# Altium footprint library PCB_Potentiostat_revA.PcbLib: 38 footprints (part 1 of 3)
Each footprint in its own frame and in the unit in brackets; x right, y up, seen from the top. Pads: shape width x height; smd on the part's side, far side on the other; paste and mask are expansions set on the pad; w line width, h text height; cw(c..) or ccw(c..) is an arc to the next point about the centre after c.
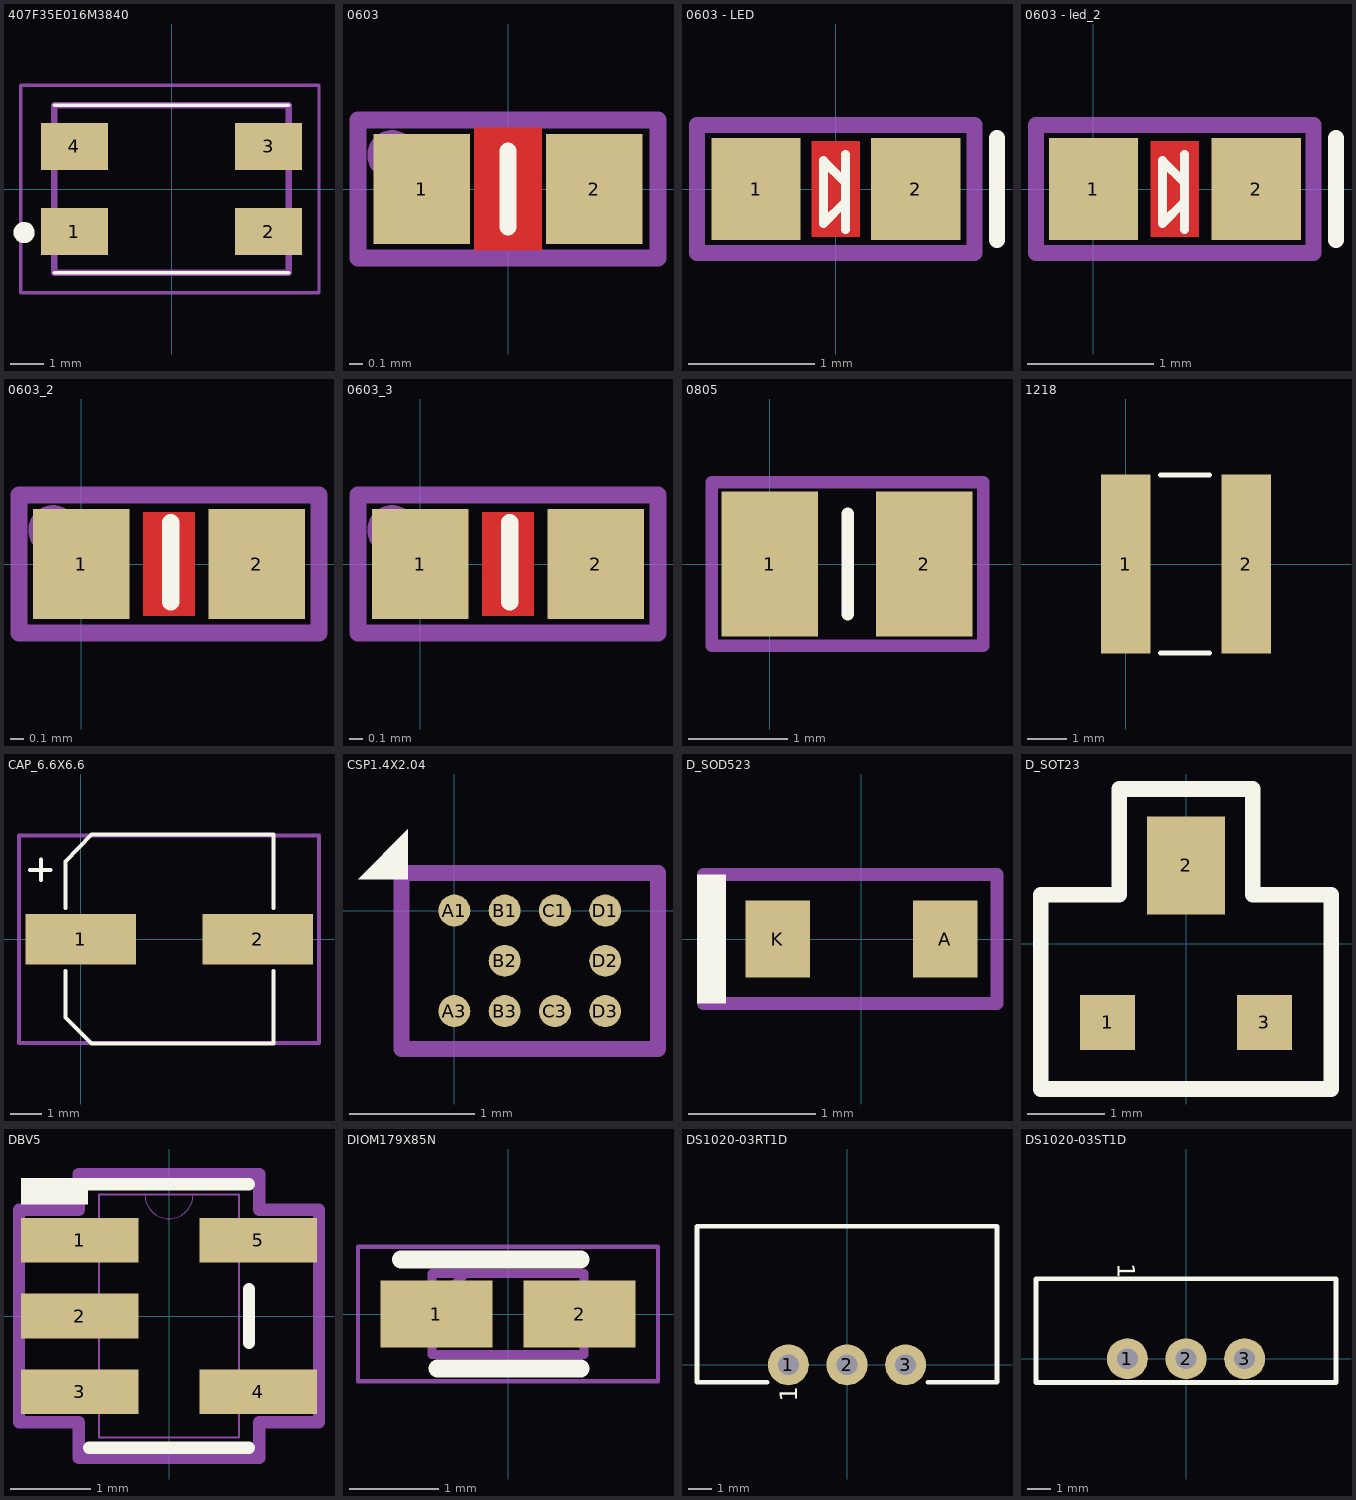
[diagram p0: the footprints below, top view; thin cyan lines are the x and y axes]

## 407F35E016M3840 [mm]
height 1.5
pads (4):
  rect 2x1.4 smd: 1(-2.9,-1.27) 2(2.9,-1.27) 3(2.9,1.27) 4(-2.9,1.27)
Top Overlay:
  circle w0.33: c-4.4,-1.3 r0.152
  lines w0.1: -3.5,-2.5 3.5,-2.5 ; -3.5,2.5 3.5,2.5
Mechanical 13:
  lines w0.2: -3.5,-2.5 -3.5,2.5 3.5,2.5 3.5,-2.5 -3.5,-2.5
Mechanical 15:
  lines w0.1: -4.5,-3.1 -4.5,3.1 4.4,3.1 4.4,-3.1 -4.5,-3.1
3D body "407F35E016M3840.stp": height 1.4, standoff 0, extent -3.76,-2.5 3.76,2.5

## 0603 [mil]
height 39.37
pads (2):
  rect 28x32 smd: 1(-25,0) 2(25,0)
Top Layer:
  pour cut-out: -9.84,-17.72 9.84,-17.72 9.84,17.72 -9.84,17.72
Top Overlay:
  lines w5: 0,-11 0,11
Mechanical 13:
  lines w5: -43.5,-20 43.5,-20 43.5,20 -43.5,20 -43.5,-20
Mechanical 15:
  circle w10: c-33.61,9.84 r2.2
3D body "0603E.STEP": height 18.9, standoff -1.18, extent -31.74,-17.03 31.26,16.83

## 0603 - LED [mil]
height 59.06
pads (2):
  rect 28x32 smd: 1(-25,0) 2(25,0)
Top Layer:
  pour cut-out: -7.5,-15 7.5,-15 7.5,15 -7.5,15
Top Overlay:
  lines w2.76: 3.04,-12.8 3.04,10.83 ; -3.89,-10.87 3.04,-3.94 3.04,1.97 -3.89,8.9 -3.89,-10.87
  lines w5: 50.5,-16 50.5,16
Mechanical 13:
  lines w5: -43.5,-20 -43.5,20 43.5,20 43.5,-20 -43.5,-20
Mechanical 15:
  text "K" at 29.62,2.95 h12.01
3D body "SW3dPS-LED SMD0603.STEP": height 26.76, standoff 0.19, extent -32.48,-15 32.48,13.54

## 0603 - led_2 [mil]
pads (2):
  rect 28x32 smd: 1(0,0) 2(51,0)
Top Layer:
  pour cut-out: 18,-15 33,-15 33,15 18,15
Top Overlay:
  lines w2.76: 28.54,-12.8 28.54,10.83 ; 21.61,-10.87 28.54,-3.94 28.54,1.97 21.61,8.9 21.61,-10.87
  lines w5: 76,-16 76,16
Mechanical 13:
  lines w5: -18,-20 -18,20 69,20 69,-20 -18,-20
Mechanical 15:
  text "K" at 55.12,2.95 h12.01
3D body "SW3dPS-LED SMD0603.STEP": height 26.76, standoff 0.19, extent -6.98,-15 57.98,13.54

## 0603_2 [mil]
pads (2):
  rect 28x32 smd: 1(0,0) 2(51,0)
Top Layer:
  pour cut-out: 18,-15 33,-15 33,15 18,15
Top Overlay:
  lines w5: 26,-11 26,12
Mechanical 13:
  lines w5: -18,-20 69,-20 69,20 -18,20 -18,-20
Mechanical 15:
  circle w10: c-8.11,9.84 r2.2
  text ".Designator" at 9.92,-2.95 h4
3D body "User Library-CapCeramic_Kemet_0603_1608.STEP": height 31.5, standoff 0, extent -5.9,-15.74 57.09,15.75

## 0603_3 [mil]
pads (2):
  rect 28x32 smd: 1(0,0) 2(51,0)
Top Layer:
  pour cut-out: 18,-15 33,-15 33,15 18,15
Top Overlay:
  lines w5: 26,-11 26,12
Mechanical 13:
  lines w5: -18,-20 69,-20 69,20 -18,20 -18,-20
Mechanical 15:
  circle w10: c-8.11,9.84 r2.2
3D body "0603E.STEP": height 18.9, standoff -1.18, extent -6.24,-17.03 56.76,16.83

## 0805 [mil]
height 39.37
pads (2):
  rect 38.5x57.87 smd: 1(0,0) 2(61.5,0)
Top Overlay:
  lines w5: 31,-20 31,20
Mechanical 13:
  lines w5: -23,-32.48 85,-32.48 85,32.48 -23,32.48 -23,-32.48
  text ".Designator" at -12,-11 h12
3D body "0805 SMD Resistor.STEP": height 30.79, standoff 0, extent -7.87,-24.6 70.87,24.61

## 1218 [mm]
height 4.65
pads (2):
  rect 1.27x4.6 smd: 1(0,0) 2(3.1,0)
Top Overlay:
  lines w0.127: 0.889,-2.286 2.159,-2.286 ; 0.889,2.286 2.159,2.286
3D body "User Library-RESC3225X06N.STEP": height 0.55, standoff 0, extent -0.175,-1.25 3.025,1.25

## CAP_6.6X6.6 [mm]
height 1.5
pads (2):
  rect 3.5x1.6 smd: 1(0,0) 2(5.6,0)
Top Overlay:
  lines w0.127: -1.61,2.2 -0.96,2.2 ; -1.27,1.89 -1.27,2.54 ; -0.49,-1 -0.49,-2.47 0.34,-3.3 6.1,-3.3 6.1,-1 ; -0.49,1 -0.49,2.47 0.34,3.33 6.1,3.33 ; 6.1,1 6.1,3.3
Mechanical 13:
  lines w0.127: -1.96,-3.28 7.54,-3.28 7.54,3.3 -1.96,3.3 -1.96,-3.28
  text ".Designator" at 0.43,1.61 h0.7

## CSP1.4X2.04 [mil]
height 49.21
pads (10):
  round 10 smd: A1(0,0) A3(0,-31.5) B1(15.75,0) B2(15.75,-15.75) B3(15.75,-31.5) C1(31.5,0) C3(31.5,-31.5) D1(47.24,0) D2(47.24,-15.75) D3(47.24,-31.5)
Top Overlay:
  region: -14.54,9.81 -14.54,25.46 -30.19,9.81
Mechanical 13:
  lines w5: -16.54,-43.31 -16.54,11.81 63.78,11.81 63.78,-43.31 -16.54,-43.31

## D_SOD523 [mil]
height 49.21
pads (2):
  rect 20x24 smd: A(25.98,0) K(-25.98,0)
Top Overlay:
  rectangle: -50.98,-19.99 -41.98,20.01
Mechanical 13:
  lines w4: -49,-20 42,-20 42,20 -49,20 -49,-20
3D body "SW3dPS-SOD523.STEP": height 27.95, standoff 0, extent -36.02,-16.7 36.03,16.72

## D_SOT23 [mil]
height 49.21
pads (3):
  rect 28x28 smd: 1(-40,-40) 3(40,-40)
  rect 40x50 smd: 2(0,40)
Top Overlay:
  lines w8: -74,-74 74,-74 74,25 34,25 34,79 -34,79 -34,25 -74,25 -74,-74
3D body "User Library-SOT23-2.STEP": height 42.52, standoff 0, extent -59.05,-51.96 59.06,51.97

## DBV5 [mil]
height 59.06
pads (5):
  rect 58x22 smd: 1(-44,37.4) 2(-44,0) 3(-44,-37.4) 4(44,-37.4) 5(44,37.4)
Top Overlay:
  rectangle: -73,55 -40,68
  lines w6: -39.5,-65 39.5,-65 ; -39.5,65 39.5,65 ; 39.5,-13.3 39.5,13.3
Mechanical 13:
  lines w0: -12,60 ccw(c0,60) 12,60
  lines w1: -59,-47.4 -34.5,-47.4 -34.5,-27.4 -59,-27.4 -59,-47.4 ; -59,-10 -34.5,-10 -34.5,10 -59,10 -59,-10 ; -59,27.4 -34.5,27.4 -34.5,47.4 -59,47.4 -59,27.4 ; -34.5,-60 -34.5,60 34.5,60 34.5,-60 -34.5,-60 ; 34.5,-47.4 59,-47.4 59,-27.4 34.5,-27.4 34.5,-47.4 ; 34.5,27.4 59,27.4 59,47.4 34.5,47.4 34.5,27.4
  lines w6: -74,-52.4 -44.5,-52.4 -44.5,-70 44.5,-70 44.5,-52.4 74,-52.4 74,52.4 44.5,52.4 44.5,70 -44.5,70 -44.5,52.4 -74,52.4 -74,-52.4

## DIOM179X85N [mm]
height 1.5
pads (2):
  rect 1.25x0.75 smd: 1(-0.8,0) 2(0.8,0)
Top Overlay:
  lines w0.2: -1.194,0.61 0.813,0.61 ; -0.787,-0.61 0.813,-0.61
Mechanical 13:
  lines w0.05: -1.675,-0.75 1.675,-0.75 1.675,0.75 -1.675,0.75 -1.675,-0.75
  lines w0.1: -0.85,0.075 -0.475,0.45 ; -0.85,-0.45 -0.85,0.45 0.85,0.45 0.85,-0.45 -0.85,-0.45
3D body "CD0603-B00340.stp": height 0.85, standoff 0, extent -0.85,-0.45 0.85,0.45

## DS1020-03RT1D [mil]
pads (3):
  round 70 hole 35.43: 1(-100,0) 2(0,0) 3(100,0)
Top Overlay:
  lines w8: -135.83,-29.53 -255.91,-29.53 -255.91,236.22 255.91,236.22 255.91,-29.53 137.8,-29.53
  text "1" at -84.74,-62.9 h30
3D body: height 177.17, standoff 0, extent -255.91,-29.53 255.91,236.22

## DS1020-03ST1D [mil]
pads (3):
  round 70 hole 35.43: 1(-100,0) 2(0,0) 3(100,0)
Top Overlay:
  lines w8: -255.91,-40.55 -255.91,136.61 255.91,136.61 255.91,-40.55 -255.91,-40.55
  text "1" at -116.05,163.29 h30
3D body: height 236.22, standoff 0, extent 62.99,-11.81 141.73,7.87
3D body: height 236.22, standoff 0, extent 62.99,15.75 141.73,94.49
3D body: height 236.22, standoff 0, extent -35.43,-11.81 35.43,7.87
3D body: height 236.22, standoff 0, extent -35.43,15.75 35.43,94.49
3D body: height 236.22, standoff 0, extent -141.73,-11.81 -62.99,7.87
3D body: height 236.22, standoff 0, extent -141.73,15.75 -62.99,94.49
3D body: height 59.06, standoff 0, extent -255.91,-40.55 255.91,136.61
3D body: height 265.75, standoff 0, extent 0,-40.55 255.91,136.61
3D body: height 265.75, standoff 0, extent -255.91,-40.55 0,136.61